# Altium schematic symbol library Raspberry_pi_b++V1.2.SchLib: 1 symbol
Pins are listed as number, name and electrical type; pins without a type are passive.

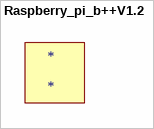
[diagram p0: symbol Raspberry_pi_b++V1.2]

## Raspberry_pi_b++V1.2
designator *
footprint PCBComponent_1